# Altium integrated library Linear Technology Power Management Switching Regulator LTC1174-LTC3901.IntLib: 2647 symbols (part 335 of 364)
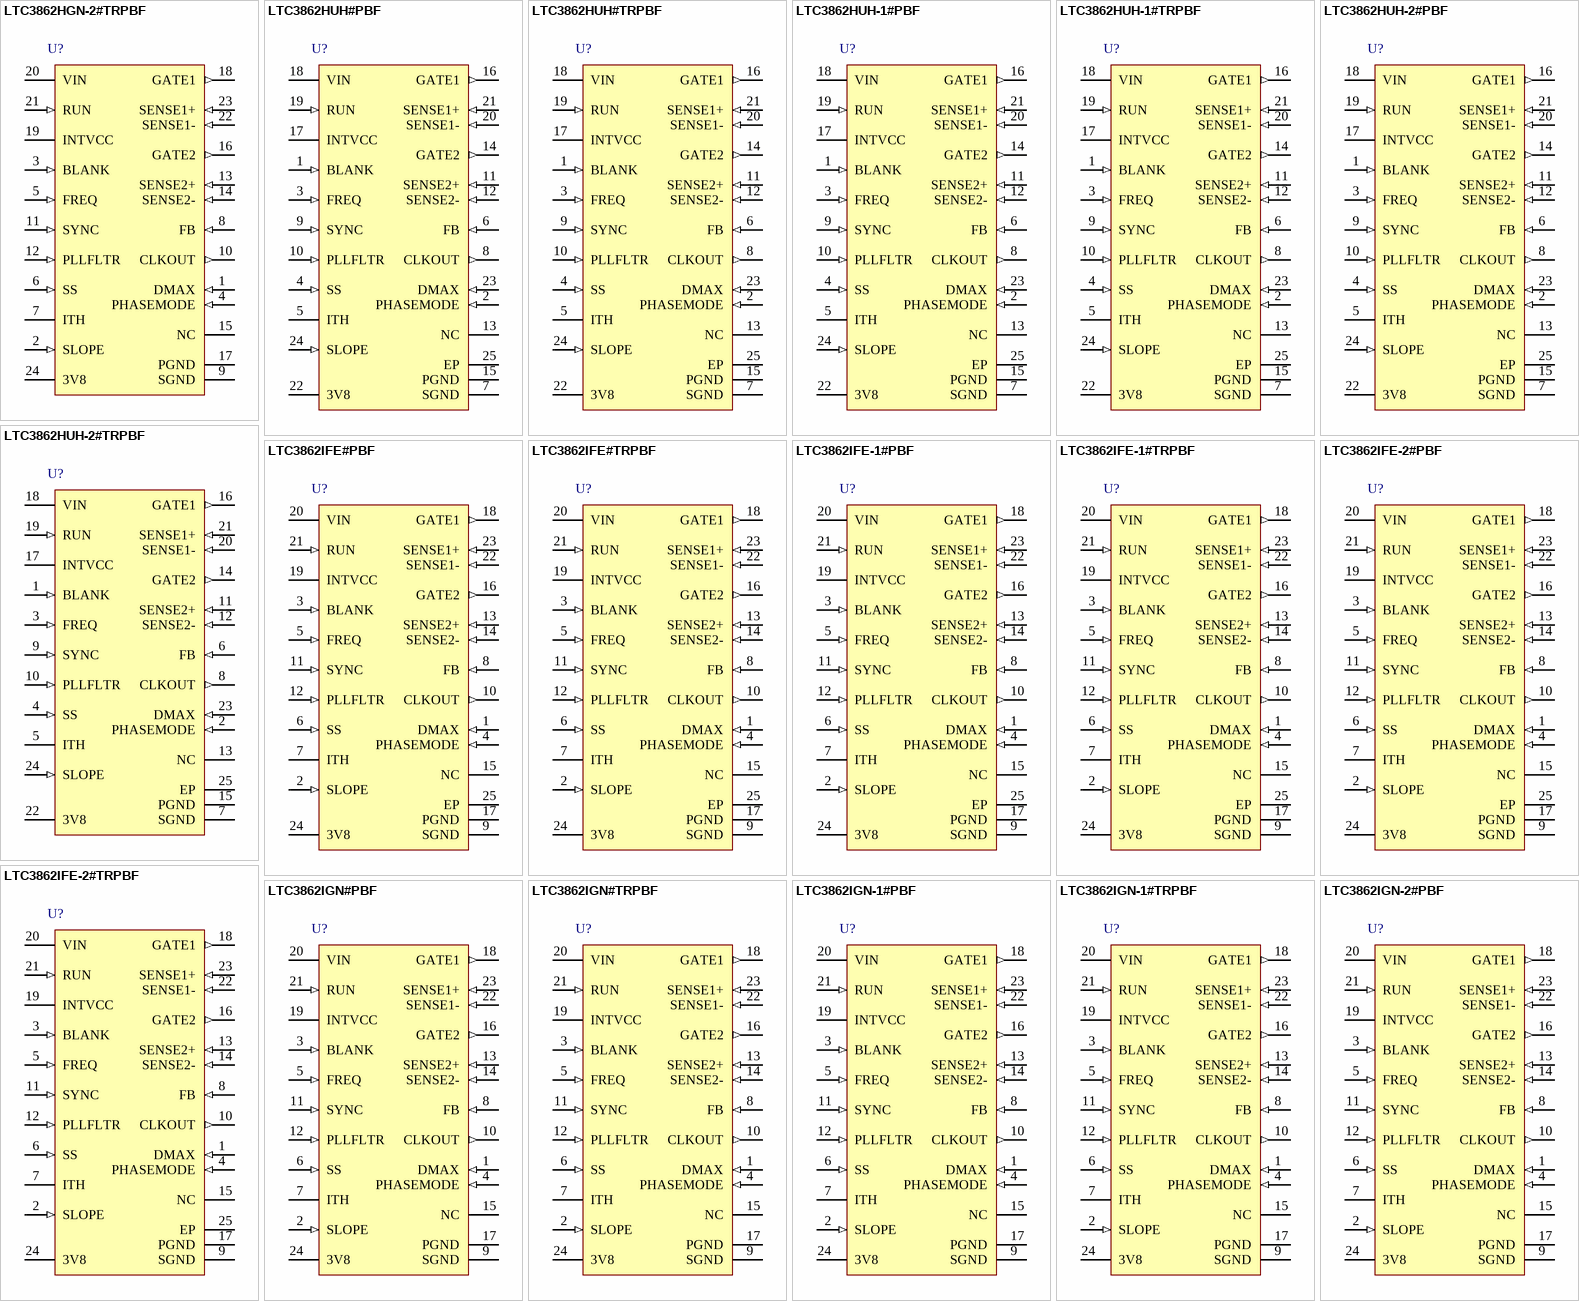
[diagram p390: symbols LTC3862HGN-2#TRPBF to LTC3862IGN-2#PBF]

## LTC3862IGN#PBF
designator U?
Multi-Phase Current Mode Step-Up DC/DC Controller, 10 V IntVcc, 4.4 V UV+, 3.9 V UV-, 24-pin SOP (GN-24), -40 to 150 degC, Pb-Free; Manufacturer: Linear Technology; PartNumber: LTC3862IGN#PBF; Frequency Sync Range: 50kHz - 650kHz; Number of Outputs: 1; DatasheetVersion: Rev. B; PackageVersion: Rev. B, 03/2012; PackageReference: GN24; PackageDescription: 24-Pin Plastic SSOP , Body 8.5 x 3.9 mm, Pitch 0.635 mm; Supplier 1: Digi-Key; Supplier Part Number 1: LTC3862IGN#PBF-ND; Supplier 2: Farnell; Supplier Part Number 2: 1673563; Supplier 3: Newark; Supplier Part Number 3: 15N5425; RoHS: TRUE; Mounting Technology: Surface Mount; ComponentLink1Description: Manufacturer URL; ComponentLink1URL: http://www.linear.com/; ComponentLink2Description: Datasheet; ComponentLink2URL: http://cds.linear.com/docs/en/datasheet/3862fb.pdf; ComponentLink3Description: Package Specification; ComponentLink3URL: http://cds.linear.com/docs/en/packaging/05081641_B_GN24.pdf
footprint LT-GN-24_N (SOP, 24-Leads, Body 8.7x4mm, Pitch 0.635mm, IPC Medium Density)
footprint LT-GN-24_L (SOP, 24-Leads, Body 8.7x4mm, Pitch 0.635mm, IPC High Density)
footprint LT-GN-24_M (SOP, 24-Leads, Body 8.7x4mm, Pitch 0.635mm, IPC Low Density)
pins: 1 DMAX (in) "Maximum Duty Cycle. This pin programs the maximum duty cycle. Floating this pin provides 84% duty cycle. Connecting this pin to 3V8 provides 75% duty cycle, while connecting it to SGND provides 96% duty cycle. The maximum (See Datasheet)", 2 SLOPE (in) "This pin programs the gain of the internal slope compensation. Floating this pin provides a normalized slope compensation gain of 1.00. Connecting this pin to 3V8 increases the normalized slope compensation by 66%, and (See Datasheet)", 3 BLANK (in) "Blanking Time. Floating this pin provides a nominal minimum on-time of 290ns. Connecting this pin to 3V8 provides a minimum on-time of 375ns, while connecting it to SGND provides a minimum on-time of 210ns.", 4 PHASEMODE (in) "The PHASEMODE pin voltage programs the phase relationship between CH1 and CH2 rising gate signals, as well as the phase relationship between CH1 gate signal and CLKOUT. Floating this pin or connecting it to either 3V8, or (See Datasheet)", 5 FREQ (in) "A resistor from FREQ to SGND sets the operating frequency.", 6 SS (in) "Soft-Start Input. For soft-start operation, connecting a capacitor from this pin to SGND will clamp the output of the error amp. An internal 5uA current source will charge the capacitor and set the rate of increase of the (See Datasheet)", 7 ITH "Error Amplifier Output. The current comparator trip threshold increases with the ITH control voltage. The ITH pin is also used for compensating the control loop of the converter.", 8 FB (in) "Error Amplifier Input. The FB pin should be connected through a resistive divider network to VOUT to set the output voltage.", 9 SGND (power) "Signal Ground. All feedback and soft-start connections should return to SGND. For optimum load regulation, the SGND pin should be kelvin connected to the PCB location between the negative terminals of the output capacitors.", 10 CLKOUT (out), 11 SYNC (in) "PLL Synchronization Input. Applying an external clock between 50kHz and 650kHz will cause the operating frequency to synchronize to the clock. SYNC is pulled down by a 50k internal resistor. The rising edge of the SYNC input (See Datasheet)", 12 PLLFLTR (in) "PLL Lowpass Filter Input. When synchronizing to an external clock, this pin serves as the lowpass filter input for the PLL. A series resistor and capacitor connected from PLLFLTR to SGND compensate the PLL feedback loop.", 13 SENSE2+ (in) "Positive Inputs to the Current Comparators. The ITH pin voltage programs the current comparator offset in order to set the peak current trip threshold. This pin is normally connected to a sense resistor in the source of the (See Datasheet)", 14 SENSE2- (in) "Negative Inputs to the Current Comparators. This pin is normally connected to the bottom of the sense resistor.", 15 NC, 16 GATE2 (out) "Gate Drive Output.", 17 PGND (power) "Power Ground. Connect this pin close to the sources of the power MOSFETs. PGND should also be connected to the negative terminals of VIN and INTVCC bypass capacitors. PGND is electrically isolated from the SGND pin. The (See Datasheet)", 18 GATE1 (out) "Gate Drive Output.", 19 INTVCC (power) "Output of the Internal 10V Low Dropout Regulator (LDO). A low ESR 4.7uF (X5R or better) ceramic bypass capacitor should be connected between INTVCC and PGND, as close as possible to the IC.", 20 VIN (power) "Main Supply Input. A low ESR ceramic capacitor should be connected between this pin and SGND.", 21 RUN (in) "Run Control Input. A voltage above 1.22V on the pin turns on the IC. Forcing the pin below 1.22V causes the IC to shut down. There is a 0.5uA pull-up current for this pin. Once the RUN pin raises above 1.22V, an additional 4.(See Datasheet)", 22 SENSE1- (in) "Negative Inputs to the Current Comparators. This pin is normally connected to the bottom of the sense resistor.", 23 SENSE1+ (in) "Positive Inputs to the Current Comparators. The ITH pin voltage programs the current comparator offset in order to set the peak current trip threshold. This pin is normally connected to a sense resistor in the source of the (See Datasheet)", 24 3V8 (power) "Output of the Internal 3.8V LDO from INTVCC. Supply pin for the low voltage analog and digital circuits. A low ESR 1nF ceramic bypass capacitor should be connected between 3V8 and SGND, as close as possible to the IC."